# Altium schematic symbol library PPTC081LFBN-RC.SchLib: 1 symbol
Pins are listed as number, name and electrical type; pins without a type are passive.

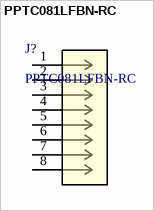
[diagram p0: symbol PPTC081LFBN-RC]

## PPTC081LFBN-RC
designator J?
Description; Manufacturer_Name: Sullins; Copyright: Copyright (C) 2026 Ultra Librarian. All rights reserved.; Manufacturer_Part_Number: PPTC081LFBN-RC; RefDes: RefDes; Type: Type
footprint CONN_PPTC081LFBN-RC_SUL
pins: 1, 2, 3, 4, 5, 6, 7, 8